# Altium schematic symbol library MAX5902.Schlib: 1 symbol
Pins are listed as number, name and electrical type; pins without a type are passive.

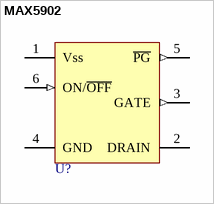
[diagram p0: symbol MAX5902]

## MAX5902
designator U?
Hot-swap controller; Package Information: Latest Revision: ver11.0, Feb-2003; Configures: APEX II, APEX 20K, Mercury, ACEX 1K & FLEX Devices; Code - JEDEC: MS-026-ABA; Published: 17-Sep-2003; Datasheet: Latest Revision: ver1.1, Oct-2003; Package Reference: TQFP32; Publisher: Altium Limited
footprint SOT23-6
pins: 1 Vss (power), 2 DRAIN, 3 GATE (out), 4 GND (power), 5 ~{PG} (out) "Power good output", 6 ON/~{OFF} (in)